# Altium schematic symbol library MERES.SchLib: 85 symbols
Pins are listed as number, name and electrical type; pins without a type are passive.

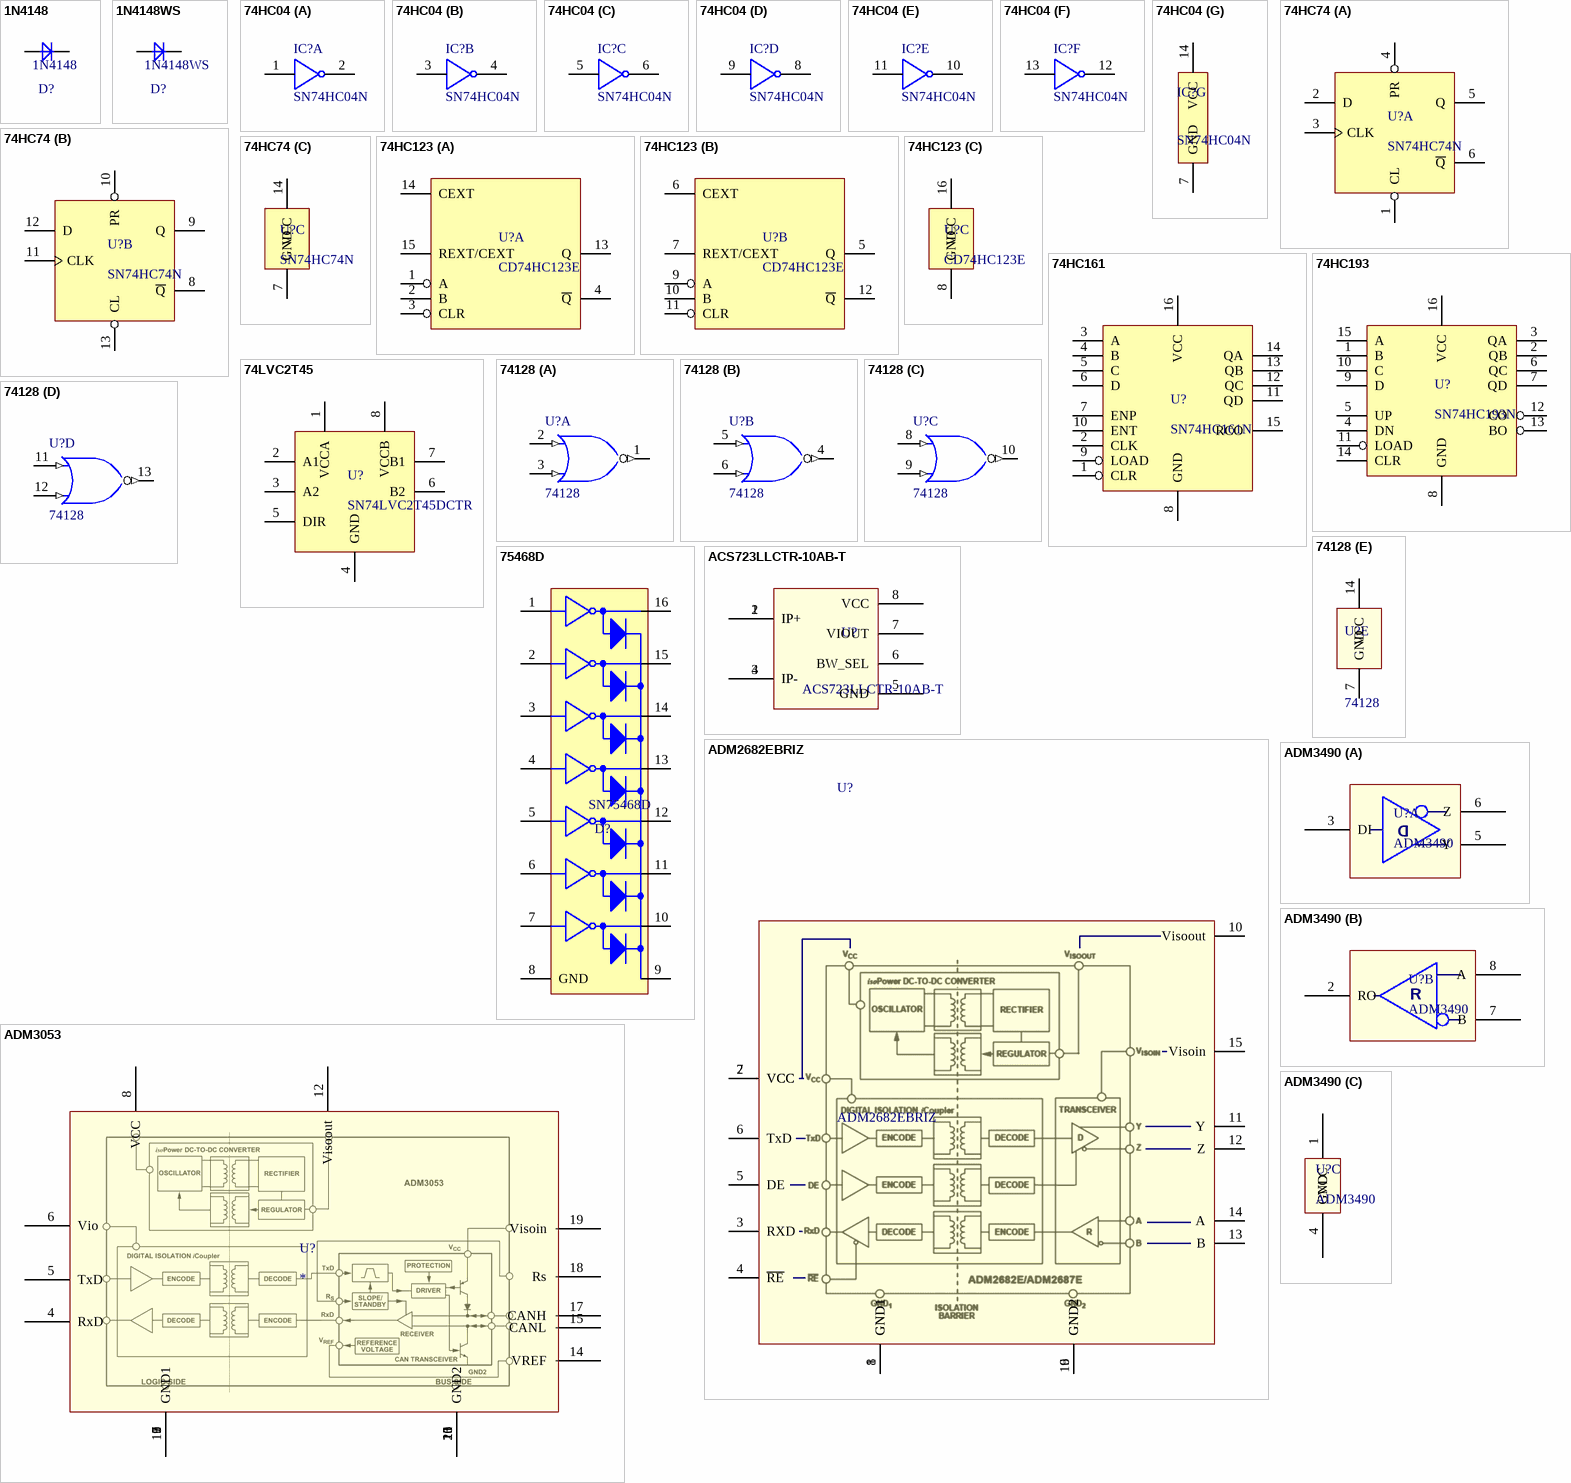
[diagram p0: symbols 1N4148 to ADM3490]

## 1N4148
designator D?
diode 100V 150mA; Part Class: Semiconductor; K_Manufacturer: (VIS); Distributor: Lomex; Order Code: 16-01-04; Package: DO-35; CompType: 1N4148
footprint DO-35-300
pins: 1 A, 2 K

## 1N4148WS
designator D?
Default Diode; Part Class: Semiconductor; CompType: 1N4148WS
footprint SOD-323
pins: 1 K, 2 A

## 74HC04
designator IC?, comment SN74HC04N
6xINVERTER GATE; Part Class: IC; K_Manufacturer: (TI); Distributor: Lomex; Order Code: 30-02-40; Package: DIP-14; CompType: SN74HC04N
footprint DIP-14
part A pins: 1 IN1, 2 OUT1
part B pins: 3 IN2, 4 OUT2
part C pins: 5 IN3, 6 OUT3
part D pins: 8 OUT4, 9 IN4
part E pins: 10 OUT5, 11 IN5
part F pins: 12 OUT6, 13 IN6
part G pins: 7 GND, 14 VCC

## 74HC74
designator U?, comment SN74HC74N
2xD-TYPE FLIP-FLOP WITH PRESET; Part Class: IC; K_Manufacturer: (TI); CompType: SN74HC74N; Distributor: Lomex; Order Code: 30-09-25; Package: DIP-14
footprint DIP-14
part A pins: 1 CL, 2 D, 3 CLK, 4 PR, 5 Q, 6 ~{Q}
part B pins: 8 ~{Q}, 9 Q, 10 PR, 11 CLK, 12 D, 13 CL
part C pins: 7 GND, 14 VCC

## 74HC123
designator U?, comment CD74HC123E
2xRETRIGGERABLE MONOSTAB. MULTIVIBRATOR; Part Class: IC; K_Manufacturer: (TI); CompType: CD74HC123E; Distributor: Lomex; Order Code: 30-04-07; Package: DIP-16
footprint DIP-16
part A pins: 1 A, 2 B, 3 CLR, 4 ~{Q}, 13 Q, 14 CEXT, 15 REXT/CEXT
part B pins: 5 Q, 6 CEXT, 7 REXT/CEXT, 9 A, 10 B, 11 CLR, 12 ~{Q}
part C pins: 8 GND, 16 VCC

## 74HC161
designator U?, comment SN74HC161N
SYNCHRONUS PRESETTAB 4-BIT BIN. COUNTER; Part Class: IC; K_Manufacturer: (TI); CompType: SN74HC161N; Distributor: Lomex; Order Code: 30-03-78; Package: DIP-16
footprint DIP-16
pins: 1 CLR, 2 CLK, 3 A, 4 B, 5 C, 6 D, 7 ENP, 8 GND, 9 LOAD, 10 ENT, 11 QD, 12 QC, 13 QB, 14 QA, 15 RCO, 16 VCC

## 74HC193
designator U?, comment SN74HC193N
SYNCHRONUS UP/DOWN BIN.COUNTER; Part Class: IC; K_Manufacturer: (TI); CompType: SN74HC193N; Distributor: Lomex; Order Code: 30-04-48; Package: DIP-16
footprint DIP-16
pins: 1 B, 2 QB, 3 QA, 4 DN, 5 UP, 6 QC, 7 QD, 8 GND, 9 D, 10 C, 11 LOAD, 12 CO, 13 BO, 14 CLR, 15 A, 16 VCC

## 74LVC2T45
designator U?, comment SN74LVC2T45DCTR
Dual-Bit Dual-Supply Level Translation With 3-State Outputs; Part Class: IC; CompType: SN74LVC2T45DCTR; Package: SSOP-8
footprint SSOP-8 (SSOP, 8-Leads, Pitch 0,65mm, Body 3,1x3,1mm)
pins: 1 VCCA, 2 A1, 3 A2, 4 GND, 5 DIR, 6 B2, 7 B1, 8 VCCB

## 74128
designator U?
NOR Line Driver; Order Code: 1105944; CompType: SN74128N; Published: 8-Jun-2000; LatestRevisionDate: 04-Mar-2005; LatestRevisionNote: Stylized 3D Model Added.; DatasheetVersion: Mar-1988; PackageVersion: Oct-1995; PackageReference: N014; Publisher: Altium Limited; PackageDescription: DIP; 14 Leads; Row Spacing 7.62 mm; Pitch 2.54 mm; ComponentLink1Description: Manufacturer Link; ComponentLink1URL: http://www.ti.com/; ComponentLink2Description: Packaging Specification; ComponentLink2URL: http://focus.ti.com/lit/ml/mpdi002c/mpdi002c.pdf; Distributor: Farnell; Package: DIP14
footprint DIP-14
part A pins: 1 Y (out), 2 A (in), 3 B (in)
part B pins: 4 Y (out), 5 A (in), 6 B (in)
part C pins: 8 A (in), 9 B (in), 10 Y (out)
part D pins: 11 A (in), 12 B (in), 13 Y (out)
part E pins: 7 GND, 14 VCC

## 75468D
designator D?, comment SN75468D
Darlington array; Part Class: Semiconductor; Order Code: 517-0766; Distributor: RS components; Package: SOIC-16; CompType: SN75468D
footprint SO-16
pins: 1 IN1, 2 IN2, 3 IN3, 4 IN4, 5 IN5, 6 IN6, 7 IN7, 8 GND, 9 COM, 10 OUT7, 11 OUT6, 12 OUT5, 13 OUT4, 14 OUT3, 15 OUT2, 16 OUT1

## ACS723LLCTR-10AB-T
designator U?
Galvanically Isolated Current Sensor; K_Manufacturer: Allegro Microsystems; Order Code: 866-0760; Distributor: RS components; Package: SOIC-8; CompType: ACS723LLCTR-10AB-T
footprint SO-8
pins: 1 IP+, 2 IP+, 3 IP-, 4 IP-, 5 GND, 6 BW_SEL, 7 VIOUT, 8 VCC

## ADM2682EBRIZ
designator U?
Note: 16Mbit/s; Order Code: 796-8978; CompType: ADM2682EBRIZ; Distributor: RS components; Package: SOIC-16
footprint SO-16W
pins: 1 GND1, 2 VCC, 3 RXD, 4 ~{RE}, 5 DE, 6 TxD, 7 VCC, 8 GND1, 9 GND2, 10 Visoout, 11 Y, 12 Z, 13 B, 14 A, 15 Visoin, 16 GND2

## ADM3053
designator U?
Order Code: 742-7809; CompType: ADM3053BRWZ; Distributor: RS components; Package: SOIC-20
footprint RW-20 (SOIC, 16-Leads, Body 10.3x7.5mm, Pitch 1.27mm, IPC High Density)
pins: 1 GND1, 3 GND1, 4 RxD, 5 TxD, 6 Vio, 7 GND1, 8 VCC, 9 GND1, 10 GND1, 11 GND2, 12 Visoout, 13 GND2, 14 VREF, 15 CANL, 16 GND2, 17 CANH, 18 Rs, 19 Visoin, 20 GND2

## ADM3490
designator U?
Order Code: 709-7997; CompType: ADM3490EARZ; Distributor: RS components; Package: SO-8
footprint SO-8
part A pins: 3 DI, 5 Y, 6 Z
part B pins: 2 RO, 7 B, 8 A
part C pins: 1 VCC, 4 GND
part A text: D
part B text: R

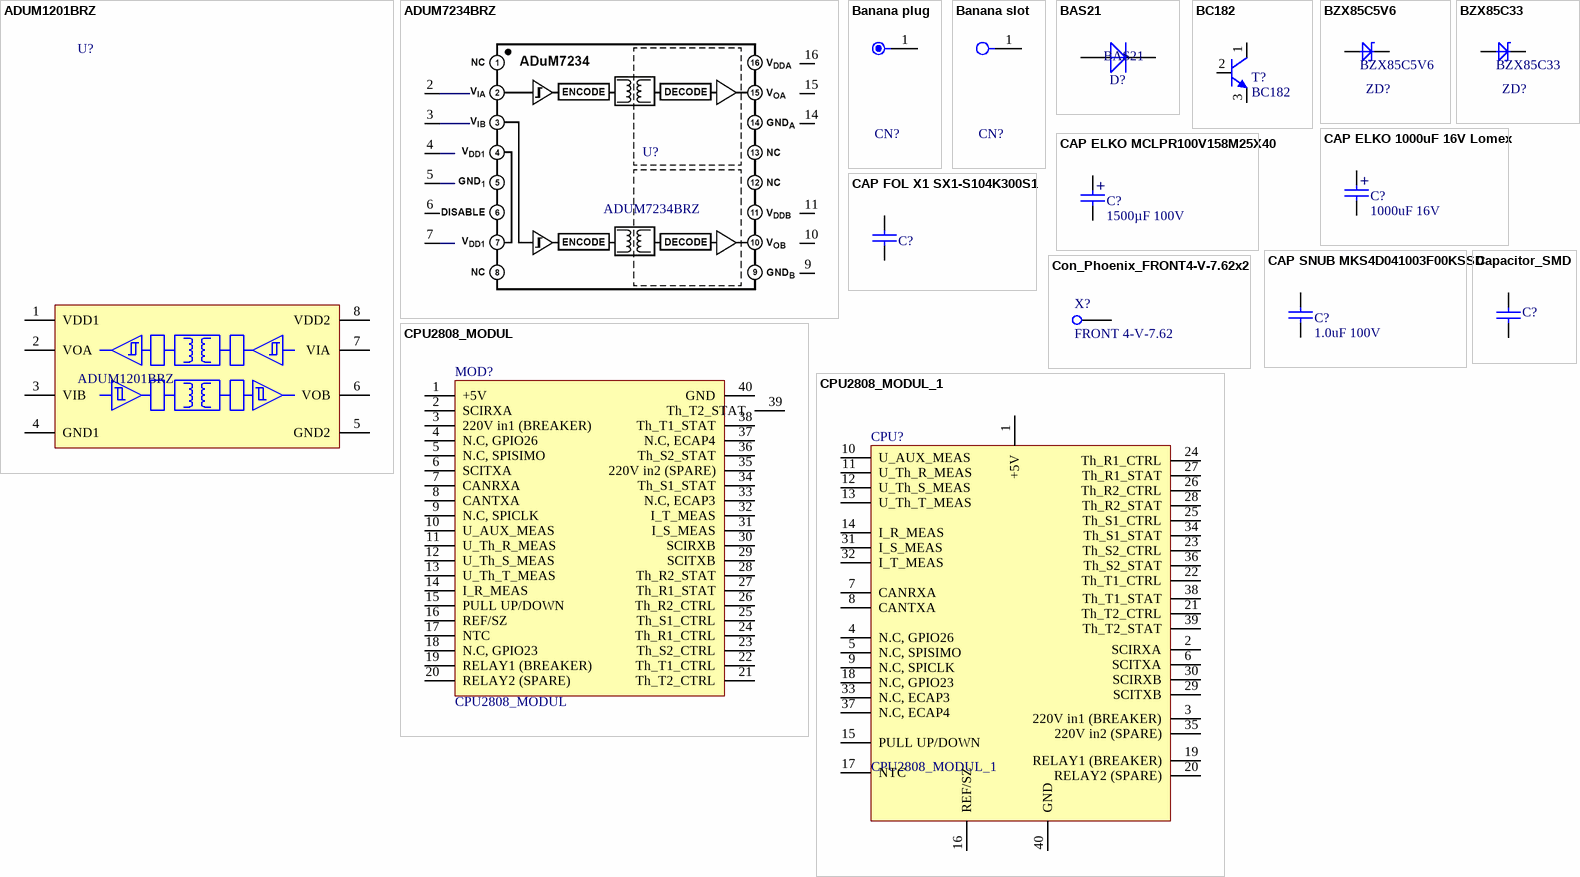
[diagram p1: symbols ADUM1201BRZ to CPU2808_MODUL_1]

## ADUM1201BRZ
designator U?
Note: 10 Mbit max. for BRZ; Order Code: 496-7525; CompType: ADUM1201BRZ; Distributor: RS components; Package: SOIC-8
footprint SO-8
pins: 1 VDD1, 2 VOA, 3 VIB, 4 GND1, 5 GND2, 6 VOB, 7 VIA, 8 VDD2

## ADUM7234BRZ
designator U?
isolated gate driver; Order Code: 802-3559; Distributor: RS components; Package: SOIC_N-16; CompType: ADUM7234BRZ
footprint SO-16
pins: 2, 3, 4, 5, 6, 7, 9, 10, 11, 14, 15, 16

## Banana plug
designator CN?  (value not drawn)
Part Class: Connector; Order Code: 930 726-100; CompType: BUELA 20K FEKETE; Distributor: RET; Package: banán
footprint banan_dugo
pins: 1

## Banana slot
designator CN?  (value not drawn)
Part Class: Connector; Order Code: Feri megveszi.; CompType: banán hüvely.; Value: RED; Distributor: Bunkoek; Package: banán
footprint banan_huvely_FEKETE
footprint banan_huvely_KEK
footprint banan_huvely_piros
pins: 1

## BAS21
designator D?
250V 200mA diode; Part Class: Semiconductor; CompType: BAS21
footprint SOT-23; pin to pad 2>3
pins: 1 A, 2 K

## BC182
designator T?
NPN-UNI 50V 0.1A 1W 100MHz; Part Class: Semiconductor; K_Manufacturer: (CDI); Distributor: Lomex; Order Code: 21-11-19; CompType: BC182
footprint TO-92 (TO, Flat Index; 3 In-Line, Axial Leads; Body Dia. 4.5mm; Leads 0.51 x 0.48 mm (max))
pins: 1 C, 2 B, 3 E

## BZX85C5V6
designator ZD?
Zener Diode 5V6 1.3W DO-41; Part Class: Semiconductor; K_Manufacturer: (VIS); Note: 5.6 V 1.3 W; Distributor: Lomex; Order Code: 18-01-92; Package: DO-41; CompType: BZX85C5V6
footprint DO-41-400
pins: 1 A, 2 K

## BZX85C33
designator ZD?
Zener Diode 33V 1.3W DO-41; Part Class: Semiconductor; K_Manufacturer: (VIS); Distributor: Lomex; Order Code: 18-00-78; Package: DO-41; CompType: BZX85C33; Note: 33 V 1.3 W
footprint DO-41-400
pins: 1 A, 2 K

## CAP ELKO 1000uF 16V Lomex
designator C?, comment 1000uF 16V
Electrolytic Capacitor, Snap-in, 1500 µF ± 20%, 100 V; K_Manufacturer: Teapo Electronic Corp.; CompType: DSY108M016S1A5G20K; Note: 20% 105° 4000h; Distributor: Lomex; Order Code: 12-18-96; Package: 8x20 RM 3.5; Part Class: Capacitor; Value: 1000uF 16V
footprint ELKO RM=3.5; D=8; L=15; (RM=3.5; D=8; L=15;)
pins: 1, 2
text: +

## CAP ELKO MCLPR100V158M25X40
designator C?, comment 1500µF 100V
Electrolytic Capacitor, Snap-in, 1500 µF ± 20%, 100 V; K_Manufacturer: Multicomp; Order Code: 1903128; CompType: MCLPR100V158M25X40; Distributor: Farnell; Part Class: Capacitor; Value: 1500µF 100V
footprint ELKO RM10.16 d=2 (Multicomp PSMN)
pins: 1, 2
text: +

## CAP FOL X1 SX1-S104K300S1
designator C?
Part Class: Capacitor
footprint Cap RM15 (FOL X1 SX1-S104K300S1)
pins: 1, 2

## CAP SNUB MKS4D041003F00KSSD
designator C?, comment 1.0uF 100V
Polyesther cap. 1μF ±10% 100 VDC; Part Class: Capacitor; K_Manufacturer: WIMA; Order Code: 108-2980; CompType: MKS4D041003F00KSSD; Distributor: RS components; Value: 1.0uF 100V
footprint Cap RM10 (MKS4D041003F00KSSD)
pins: 1, 2

## Capacitor_SMD
designator C?
SMD kondenzátorok; Part Class: Capacitor
footprint 1210_C
footprint 0805_C
footprint 1206_C
footprint AXIAL-0.3 (Axial Device, Thru-Hole; 2 Leads; 0.3 in Pin Spacing)
pins: 1, 2

## Con_Phoenix_FRONT4-V-7.62x2
designator X?, comment FRONT 4-V-7.62
Part Class: Connector; K_Manufacturer: Phoenix Contact; Note: 2 x; Order Code: 1703021; CompType: FRONT 4-V-7.62; Distributor: Phoenix Contact; Mounted: Yes; SMD: No; K_Description: Connector; K_Type: FRONT 4-V-7.62; K_Value: 1703021
footprint Phoenix_FRONT4-V-7.62x2
pins: 1

## CPU2808_MODUL
designator MOD?
Part Class: Other
footprint CPU2808_MODUL
pins: 1 +5V, 2 SCIRXA, 3 220V in1 (BREAKER), 4 N.C, GPIO26, 5 N.C, SPISIMO, 6 SCITXA, 7 CANRXA, 8 CANTXA, 9 N.C, SPICLK, 10 U_AUX_MEAS, 11 U_Th_R_MEAS, 12 U_Th_S_MEAS, 13 U_Th_T_MEAS, 14 I_R_MEAS, 15 PULL UP/DOWN, 16 REF/SZ, 17 NTC, 18 N.C, GPIO23, 19 RELAY1 (BREAKER), 20 RELAY2 (SPARE), 21 Th_T2_CTRL, 22 Th_T1_CTRL, 23 Th_S2_CTRL, 24 Th_R1_CTRL, 25 Th_S1_CTRL, 26 Th_R2_CTRL, 27 Th_R1_STAT, 28 Th_R2_STAT, 29 SCITXB, 30 SCIRXB, 31 I_S_MEAS, 32 I_T_MEAS, 33 N.C, ECAP3, 34 Th_S1_STAT, 35 220V in2 (SPARE), 36 Th_S2_STAT, 37 N.C, ECAP4, 38 Th_T1_STAT, 39 Th_T2_STAT, 40 GND

## CPU2808_MODUL_1
designator CPU?
Part Class: Other
footprint CPU2808_MODUL
pins: 1 +5V, 2 SCIRXA, 3 220V in1 (BREAKER), 4 N.C, GPIO26, 5 N.C, SPISIMO, 6 SCITXA, 7 CANRXA, 8 CANTXA, 9 N.C, SPICLK, 10 U_AUX_MEAS, 11 U_Th_R_MEAS, 12 U_Th_S_MEAS, 13 U_Th_T_MEAS, 14 I_R_MEAS, 15 PULL UP/DOWN, 16 REF/SZ, 17 NTC, 18 N.C, GPIO23, 19 RELAY1 (BREAKER), 20 RELAY2 (SPARE), 21 Th_T2_CTRL, 22 Th_T1_CTRL, 23 Th_S2_CTRL, 24 Th_R1_CTRL, 25 Th_S1_CTRL, 26 Th_R2_CTRL, 27 Th_R1_STAT, 28 Th_R2_STAT, 29 SCITXB, 30 SCIRXB, 31 I_S_MEAS, 32 I_T_MEAS, 33 N.C, ECAP3, 34 Th_S1_STAT, 35 220V in2 (SPARE), 36 Th_S2_STAT, 37 N.C, ECAP4, 38 Th_T1_STAT, 39 Th_T2_STAT, 40 GND

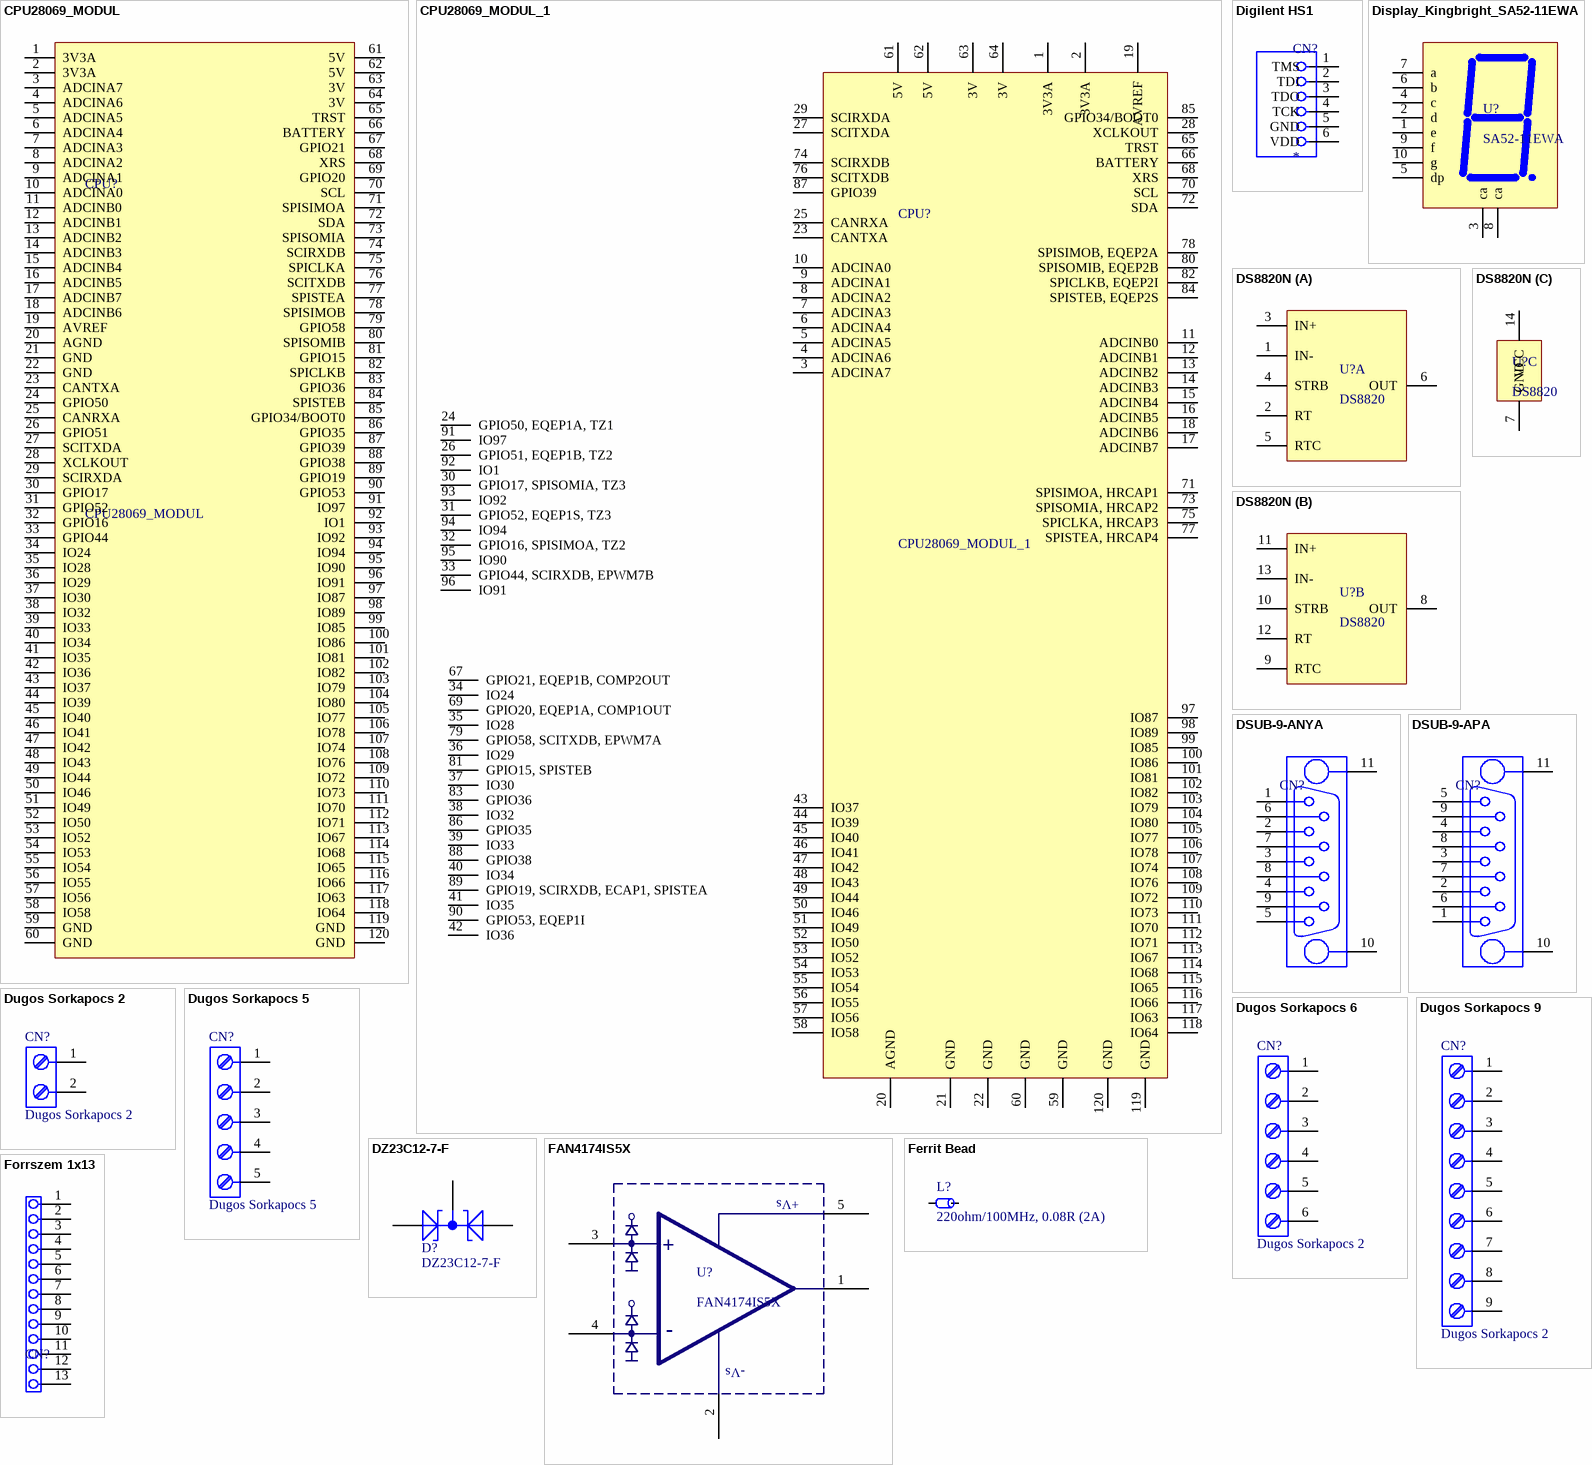
[diagram p2: symbols CPU28069_MODUL to Forrszem 1x13]

## CPU28069_MODUL
designator CPU?
Part Class: Other; CompType: Texas proc. card; Order Code: Szákó procikártya; Distributor: Feri; Package: 2.0 in
footprint CPU28069_szako
pins: 1 3V3A, 2 3V3A, 3 ADCINA7, 4 ADCINA6, 5 ADCINA5, 6 ADCINA4, 7 ADCINA3, 8 ADCINA2, 9 ADCINA1, 10 ADCINA0, 11 ADCINB0, 12 ADCINB1, 13 ADCINB2, 14 ADCINB3, 15 ADCINB4, 16 ADCINB5, 17 ADCINB7, 18 ADCINB6, 19 AVREF, 20 AGND, 21 GND, 22 GND, 23 CANTXA, 24 GPIO50, 25 CANRXA, 26 GPIO51, 27 SCITXDA, 28 XCLKOUT, 29 SCIRXDA, 30 GPIO17, 31 GPIO52, 32 GPIO16, 33 GPIO44, 34 IO24, 35 IO28, 36 IO29, 37 IO30, 38 IO32, 39 IO33, 40 IO34, 41 IO35, 42 IO36, 43 IO37, 44 IO39, 45 IO40, 46 IO41, 47 IO42, 48 IO43, 49 IO44, 50 IO46, 51 IO49, 52 IO50, 53 IO52, 54 IO53, 55 IO54, 56 IO55, 57 IO56, 58 IO58, 59 GND, 60 GND, 61 5V, 62 5V, 63 3V, 64 3V, 65 TRST, 66 BATTERY, 67 GPIO21, 68 XRS, 69 GPIO20, 70 SCL, 71 SPISIMOA, 72 SDA, 73 SPISOMIA, 74 SCIRXDB, 75 SPICLKA, 76 SCITXDB, 77 SPISTEA, 78 SPISIMOB, 79 GPIO58, 80 SPISOMIB, 81 GPIO15, 82 SPICLKB, 83 GPIO36, 84 SPISTEB, 85 GPIO34/BOOT0, 86 GPIO35, 87 GPIO39, 88 GPIO38, 89 GPIO19, 90 GPIO53, 91 IO97, 92 IO1, 93 IO92, 94 IO94, 95 IO90, 96 IO91, 97 IO87, 98 IO89, 99 IO85, 100 IO86, 101 IO81, 102 IO82, 103 IO79, 104 IO80, 105 IO77, 106 IO78, 107 IO74, 108 IO76, 109 IO72, 110 IO73, 111 IO70, 112 IO71, 113 IO67, 114 IO68, 115 IO65, 116 IO66, 117 IO63, 118 IO64, 119 GND, 120 GND

## CPU28069_MODUL_1
designator CPU?
HÜVELY 36x2 P PRECI 803-87-072-10-001101 (PRE) 2.54x2.54 FLASH Au 0.64x0.64mm 0.7-0.9mm; Part Class: Other; Note: CPU kártyánként kettő kell! FLASH Au 0.64x0.64mm 0.7-0.9mm; Order Code: 2x  43-07-14; CompType: 803-87-072-10-001101; Distributor: Lomex; Package: 36x2P 2.54x2.54
footprint CPU28069_szako
pins: 1 3V3A, 2 3V3A, 3 ADCINA7, 4 ADCINA6, 5 ADCINA5, 6 ADCINA4, 7 ADCINA3, 8 ADCINA2, 9 ADCINA1, 10 ADCINA0, 11 ADCINB0, 12 ADCINB1, 13 ADCINB2, 14 ADCINB3, 15 ADCINB4, 16 ADCINB5, 17 ADCINB7, 18 ADCINB6, 19 AVREF, 20 AGND, 21 GND, 22 GND, 23 CANTXA, 24 GPIO50, EQEP1A, TZ1, 25 CANRXA, 26 GPIO51, EQEP1B, TZ2, 27 SCITXDA, 28 XCLKOUT, 29 SCIRXDA, 30 GPIO17, SPISOMIA, TZ3, 31 GPIO52, EQEP1S, TZ3, 32 GPIO16, SPISIMOA, TZ2, 33 GPIO44, SCIRXDB, EPWM7B, 34 IO24, 35 IO28, 36 IO29, 37 IO30, 38 IO32, 39 IO33, 40 IO34, 41 IO35, 42 IO36, 43 IO37, 44 IO39, 45 IO40, 46 IO41, 47 IO42, 48 IO43, 49 IO44, 50 IO46, 51 IO49, 52 IO50, 53 IO52, 54 IO53, 55 IO54, 56 IO55, 57 IO56, 58 IO58, 59 GND, 60 GND, 61 5V, 62 5V, 63 3V, 64 3V, 65 TRST, 66 BATTERY, 67 GPIO21, EQEP1B, COMP2OUT, 68 XRS, 69 GPIO20, EQEP1A, COMP1OUT, 70 SCL, 71 SPISIMOA, HRCAP1, 72 SDA, 73 SPISOMIA, HRCAP2, 74 SCIRXDB, 75 SPICLKA, HRCAP3, 76 SCITXDB, 77 SPISTEA, HRCAP4, 78 SPISIMOB, EQEP2A, 79 GPIO58, SCITXDB, EPWM7A, 80 SPISOMIB, EQEP2B, 81 GPIO15, SPISTEB, 82 SPICLKB, EQEP2I, 83 GPIO36, 84 SPISTEB, EQEP2S, 85 GPIO34/BOOT0, 86 GPIO35, 87 GPIO39, 88 GPIO38, 89 GPIO19, SCIRXDB, ECAP1, SPISTEA, 90 GPIO53, EQEP1I, 91 IO97, 92 IO1, 93 IO92, 94 IO94, 95 IO90, 96 IO91, 97 IO87, 98 IO89, 99 IO85, 100 IO86, 101 IO81, 102 IO82, 103 IO79, 104 IO80, 105 IO77, 106 IO78, 107 IO74, 108 IO76, 109 IO72, 110 IO73, 111 IO70, 112 IO71, 113 IO67, 114 IO68, 115 IO65, 116 IO66, 117 IO63, 118 IO64, 119 GND, 120 GND

## Digilent HS1
designator CN?
CompType: Pin header 40 P; Distributor: Lomex; Order Code: 43-00-73; Package: PHSS-40- 6/3 (T-T) 2.54mm
footprint DIGILENT HS1 TUSKESOR1x6
pins: 1 TMS, 2 TDI, 3 TDO, 4 TCK, 5 GND, 6 VDD

## Display_Kingbright_SA52-11EWA
designator U?, comment SA52-11EWA
CompType: SA52-11EWA
pins: 1 e, 2 d, 3 ca, 4 c, 5 dp, 6 b, 7 a, 8 ca, 9 f, 10 g

## DS8820N
designator U?, comment DS8820
Dual Line Receiver; Part Class: IC; Note: Farnell: interchangeable with SN75182N; CompType: DS8820; Distributor: ?; Order Code: ?; Package: DIP-14
footprint DIP-14
part A pins: 1 IN-, 2 RT, 3 IN+, 4 STRB, 5 RTC, 6 OUT
part B pins: 8 OUT, 9 RTC, 10 STRB, 11 IN+, 12 RT, 13 IN-
part C pins: 7 GND, 14 VCC

## DSUB-9-ANYA
designator CN?  (value not drawn)
Part Class: Connector
footprint DSUB-9-US-ANYA
pins: 1, 2, 3, 4, 5, 6, 7, 8, 9, 10 MH1, 11 MH2

## DSUB-9-APA
designator CN?  (value not drawn)
Part Class: Connector
footprint DSUB-9-US-APA
pins: 1, 2, 3, 4, 5, 6, 7, 8, 9, 10 MH1, 11 MH2

## Dugos Sorkapocs 2
designator CN?
2 P RM5.08 90° ZÁRT 12A; Part Class: Connector; Order Code: 43-06-99, 43-06-88; CompType: CPM5.08/2SQ, CPF5.08/2; Distributor: Lomex; Package: 5.08mm; Note: 2 P RM5.08 90° ZÁRT 12A
footprint Dugos_sorkapocs 2
pins: 1, 2

## Dugos Sorkapocs 5
designator CN?
SORKAPOCS 5 P RM5.08 CSAPSORLÉC 90° ZÁRT 12A; Part Class: Connector; K_manufacturer: (STE); Order Code: 43-07-79, 43-07-78; CompType: CPM5.08/5SQ, CPF5.08/5; Value: 5P; Distributor: Lomex; Package: RM5.08
footprint Dugos_sorkapocs 5
pins: 1, 2, 3, 4, 5

## Dugos Sorkapocs 6
designator CN?, comment Dugos Sorkapocs 2
SORKAPOCS 6 P RM5.08 CSAPSORLÉC 90°; Part Class: Connector; Order Code: 43-07-95, 43-07-94; CompType: CPM5.08/6SQ, CPF5.08/6; Note: 6 P RM5.08  90° ZÁRT 12A; Distributor: Lomex; Package: 5.08mm
footprint Dugos_sorkapocs 6
pins: 1, 2, 3, 4, 5, 6

## Dugos Sorkapocs 9
designator CN?, comment Dugos Sorkapocs 2
SORKAPOCS 9 P RM5.08 CSAPSORLÉC 90° ZÁRT; Part Class: Connector; Order Code: 43-07-83, 43-07-82; CompType: CPM5.08/9SQ; Value: 9P; Note: SORKAPOCS CSAPSORLÉC 90° ZÁRT. Dugó is az OrderCode-ban!; Distributor: Lomex; Package: RM5.08
footprint Dugos_sorkapocs 9
pins: 1, 2, 3, 4, 5, 6, 7, 8, 9

## DZ23C12-7-F
designator D?
Dual Zener 2x12V 300mW SOT-23; Part Class: Semiconductor; Order Code: 1773571; Note: Dual zener 12V; Distributor: Farnell; Package: SOT-23; CompType: DZ23C12-7-F
footprint SOT-23
pins: 1 A1, 2 A2, 3 K

## FAN4174IS5X
designator U?
OrderCode: 671-1166; CompType: FAN4174IS5X; Distributor: RS components; Package: SOT-23-5
footprint SOT-23-5 (SOT23, 5-Leads, Texas Instruments)
pins: 1 OUT, 2 -Vs, 3 +IN, 4 -IN, 5 +Vs
text: +; -

## Ferrit Bead
designator L?, comment 220ohm/100MHz, 0.08R (2A)
SMD Ferrit Bead 220ohm/100MHz; Part Class: Inductivity; CompType: CB05YTYH221; Distributor: Lomex; Order Code: 93-03-48; Package: 0805; Value: 220ohm/100MHz, 0.08R (2A)
footprint 0805_R
footprint 1206_R
pins: 1, 2

## Forrszem 1x13
designator CN?  (value not drawn)
Part Class: Connector; Note: Do not place! For wires only.
footprint FORRSZEM_1x13
pins: 1, 2, 3, 4, 5, 6, 7, 8, 9, 10, 11, 12, 13

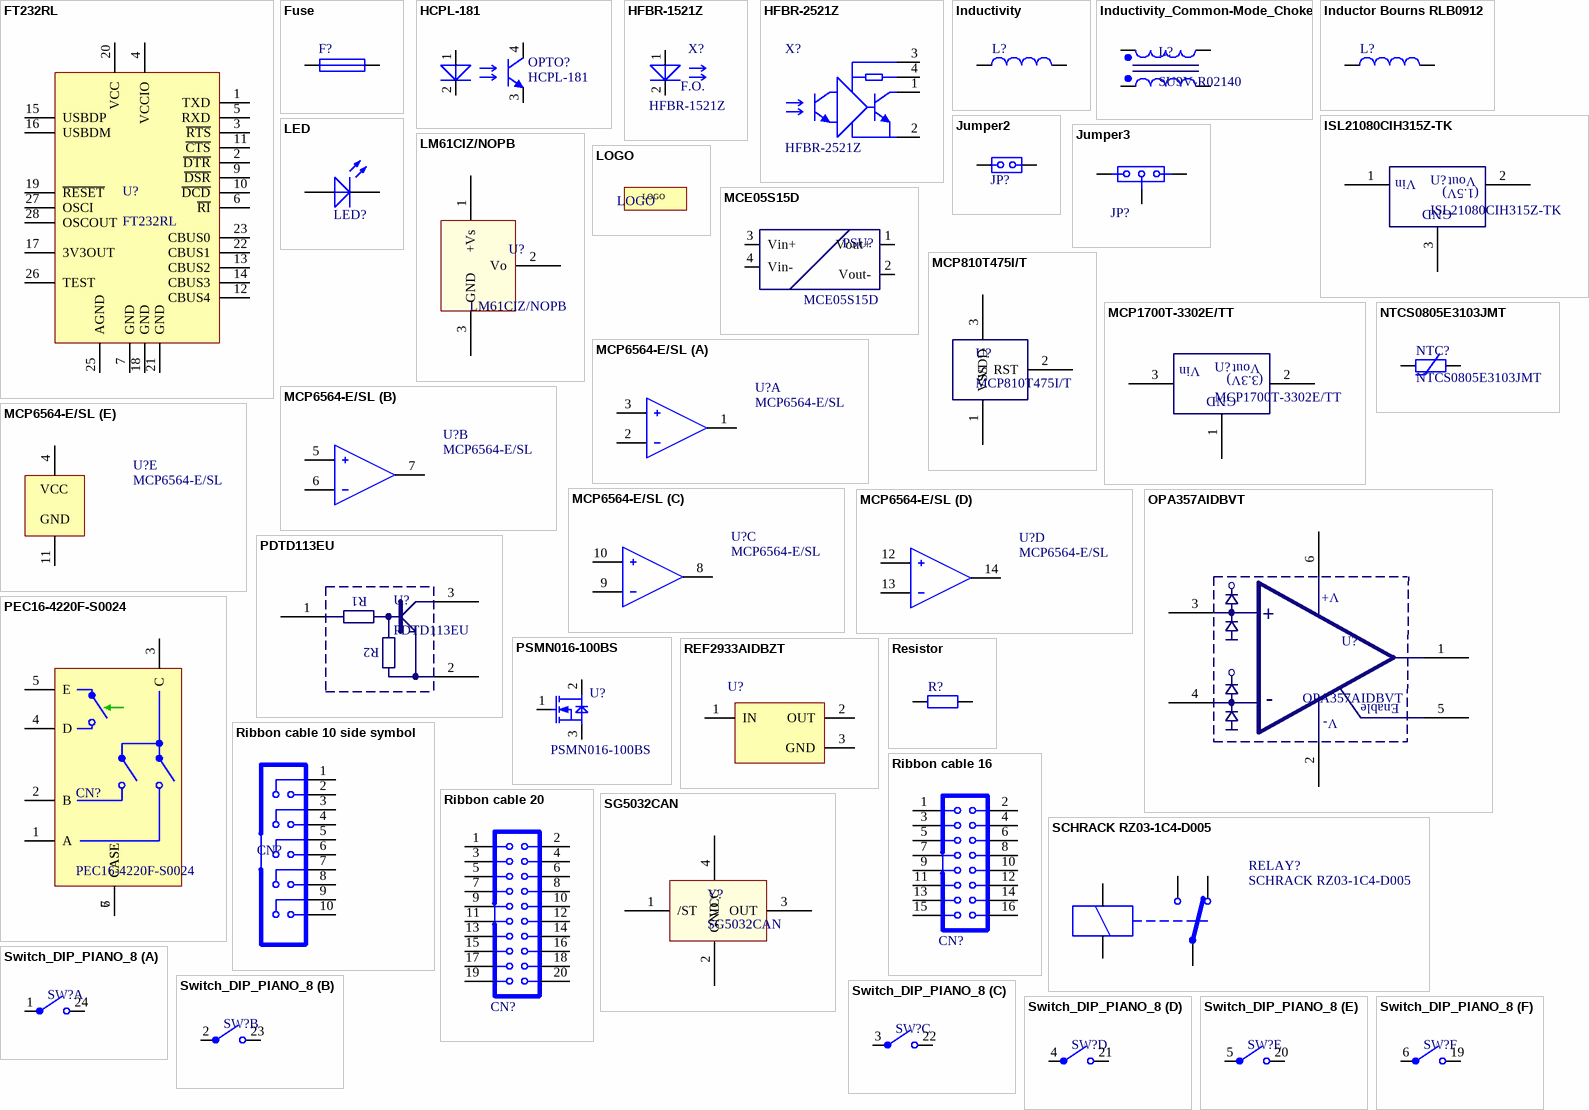
[diagram p3: symbols FT232RL to Switch_DIP_PIANO_8]

## FT232RL
designator U?
USB - UART IC; K_Manufacturer: (FTD); Note: USB UART IC; CompType: FT232RL; Distributor: Lomex; Order Code: 89-21-46; Package: SSOP-28; Part Class: IC
footprint SSOP-28 (FTDI Chip)
pins: 1 TXD, 2 ~{DTR}, 3 ~{RTS}, 4 VCCIO, 5 RXD, 6 ~{RI}, 7 GND, 9 ~{DSR}, 10 ~{DCD}, 11 ~{CTS}, 12 CBUS4, 13 CBUS2, 14 CBUS3, 15 USBDP, 16 USBDM, 17 3V3OUT, 18 GND, 19 ~{RESET}, 20 VCC, 21 GND, 22 CBUS1, 23 CBUS0, 25 AGND, 26 TEST, 27 OSCI, 28 OSCOUT

## Fuse
designator F?
Fuse; Part Class: Other
footprint BIZTOSITO_5X20
pins: 1, 2

## HCPL-181
designator OPTO?
Part Class: Opto; CompType: HCPL-181
footprint HCPL-181
pins: 1 A, 2 K, 3 E, 4 C

## HFBR-1521Z
designator X?
Part Class: Opto; K_Manufacturer: Avago; K_PartNum: 2010; CompType: HFBR-1522Z; K_Description: Fibre Optic Transmitter; K_Note: Horizontal; K_Type: HFBR-1522Z; Mounted: Yes; SMD: No
footprint HFBR-x52xZ
pins: 1 A, 2 K
text: F.O.

## HFBR-2521Z
designator X?
Part Class: Opto; K_Manufacturer: Avago; K_PartNum: 2010; CompType: HFBR-2522Z; K_Description: Fibre Optic Receiver; K_Note: Horizontal; K_Type: HFBR-2522Z; Mounted: Yes; SMD: No
footprint HFBR-x52xZ
pins: 1 Vo, 2 GND, 3 VCC, 4 RL

## Inductivity
designator L?
Part Class: Inductivity
footprint 0805_R
footprint 1206_R
footprint 1210
footprint PD1608
pins: 1, 2

## Inductivity_Common-Mode_Choke
designator L?, comment SU9V-R02140
Common-Mode Choke; Part Class: Inductivity; Value: SU9V-R02140
footprint SU9V-R02140
pins: 1, 2, 3, 4

## Inductor Bourns RLB0912
designator L?
Part Class: Inductivity
footprint IND_RAD_RM_5.0mm_9.5x12mm
pins: 1, 2

## ISL21080CIH315Z-TK
designator U?
footprint SOT-23
pins: 1 Vin, 2 Vout, 3 GND
text: (1.5V)

## Jumper2
designator JP?  (value not drawn)
Part Class: Connector
footprint JUMPER2
pins: 1, 2

## Jumper3
designator JP?  (value not drawn)
Part Class: Connector
footprint JUMPER3
pins: 1, 2, 3

## LED
designator LED?
LED; Part Class: Semiconductor
footprint 1206_LED_B
footprint 1206_LED_G
footprint 1206_LED_R
footprint 1206_LED_Y
footprint LED_5mm_hole
pins: 1 A, 2 K

## LM61CIZ/NOPB
designator U?
Temperature Sensor; K_Manufacturer: Texas Instruments; Order Code: 761-6034; Distributor: RS components; Package: TO-92; CompType: LM61CIZ/NOPB
footprint TO-92 (TO, Flat Index; 3 In-Line, Axial Leads; Body Dia. 4.5mm; Leads 0.51 x 0.48 mm (max))
pins: 1 +Vs, 2 Vo, 3 GND

## LOGO
designator G?  (no BOM)
footprint HIGH_VOLTAGE
footprint AUT logo

## MCE05S15D
designator PSU?
5V-in, 15V-out isolated DC/DC.; Order Code: 2079693; Distributor: Farnell; Package: DIP; CompType: MCE05S15D
footprint Multicomp MCE DIP
pins: 1 Vout+, 2 Vout-, 3 Vin+, 4 Vin-

## MCP810T475I/T
designator U?
footprint SOT-23
pins: 1 VSS, 2 RST, 3 VDD

## MCP1700T-3302E/TT
designator U?
footprint SOT-23
pins: 1 GND, 2 Vout, 3 Vin
text: (3.3V)

## MCP6564-E/SL
designator U?
Quad Push-Pull Output Compatator; Part Class: IC; Order Code: 669-6272; Distributor: RS components; Package: SO-14; CompType: MCP6564-E/SL
footprint SO-14
part A pins: 1 OUT1, 2 IN1-, 3 IN1+
part B pins: 5 IN2+, 6 IN2-, 7 OUT2
part C pins: 8 OUT3, 9 IN3-, 10 IN3+
part D pins: 12 IN4+, 13 IN4-, 14 OUT4
part E pins: 4 VCC, 11 GND

## NTCS0805E3103JMT
designator NTC?
10K NTC thermistor; Part Class: NTC; Value: NTCS0805E3103JMT
footprint 0805_R
pins: 1, 2

## OPA357AIDBVT
designator U?
OP-amp; K_Manufacturer: Texas Instruments; Order Code: 461-8841; Distributor: RS components; Package: SOT-23-6; CompType: OPA357AIDBVT
footprint SOT-23-6 (SOT23, 6-Leads, Texas Instruments)
pins: 1 OUT, 2 -Vs, 3 +IN, 4 -IN, 5 OUT, 6 V+
text: +; -; Enable; V-

## PDTD113EU
designator U?
footprint SC-70-3
pins: 1 B, 2 E, 3 C
text: R1; R2

## PEC16-4220F-S0024
designator CN?
ENCODER, ROTARY, INCREMENTAL, 100RPM; Part Class: Connector; Order Code: 2321814; Distributor: Farnell; CompType: PEC16-4220F-S0024; Note: ENCODER, ROTARY, INCREMENTAL, 100RPM
footprint PEC16-4xxxF-Sxxxx
pins: 1 A, 2 B, 3 C, 4 D, 5 E, 6 CASE, 7 CASE

## PSMN016-100BS
designator U?
MOSFET N Channel, 57 A, 100 V, 0.013 ohm; K_Manufacturer: NXP; Order Code: 2112537; Distributor: Farnell; Package: TO-263 (D^2 PAK); CompType: PSMN016-100BS
footprint D2PAK
pins: 1 G, 2 D, 3 S

## REF2933AIDBZT
designator U?
3.3 V, 100 ppm / degC, 50 uA in Series (Bandgap) Voltage Reference, -40 to 125 degC, 3-pin SOT-23 (DBZ), Green (RoHS & no Sb/Br); Manufacturer: Texas Instruments; PartNumber: REF2933AIDBZT; Initial Accuracy @ 25/deg C(%): 2; Iq(Max)(uA): 50; Rating: Catalog; SubFamily: Series Voltage Reference; Temp Coeff(Max)(ppm/ degree C): 100; Temp Coeff(Typ)(ppm/ degree C): 35; VI(Max)(V): 3.5; VO(V): 3.3; Order Code: 1459250; Note: 3.3V Voltage Reference, Precision, Low Power; DatasheetVersion: SBVS033B; PackageVersion: 4203227/B; PackageReference: DBZ3; PackageDescription: 3-Pin Plastic Small Outline, Body 2.92 x 1.3 mm, Pitch 0.95 mm; Supplier 1: Digi-Key; Supplier Part Number 1: 296-13484-2-ND; Supplier 2: Digi-Key; Supplier Part Number 2: 296-13484-1-ND; Supplier 3: Digi-Key; Supplier Part Number 3: 296-13484-6-ND; Supplier 4: Farnell; Supplier Part Number 4: 1459250RL; Supplier 5: Farnell; Supplier Part Number 5: 1459250; Supplier 6: Newark; Supplier Part Number 6: 83C7456; Supplier 7: Mouser; Supplier Part Number 7: 595-REF2933AIDBZT; Eco-Plan: Green (RoHS & no Sb/Br); Mounting Technology: Surface Mount; Code_JEDEC: TO-236; ComponentLink1Description: Manufacturer URL; ComponentLink1URL: http://www.ti.com/; ComponentLink2Description: Datasheet; ComponentLink2URL: http://www.ti.com/general/docs/lit/getliterature.tsp?genericPartNumber=REF2933&fileType=pdf; ComponentLink3Description: Package Specification; ComponentLink3URL: http://www.ti.com/litv/pdf/mpds108a; CompType: REF2933AIDBZT; Package: SOT-23; Distributor: Farnell
footprint TI-DBZ3_N (SOT23, 3-Leads, Body 2.92x1.3 mm, Pitch 0.95 mm, IPC Medium Density)
pins: 1 IN (power), 2 OUT (power), 3 GND (power)

## Resistor
designator R?
Part Class: Resistor
footprint MELF_RES_LARGE
footprint RES_AXIAL_D95_L250_RM500 (Ellenállás D = 2.4 mm  Testhossz = 6.3 mm  Raszter = 12.7 mm)
footprint 1210
footprint 0805_R
footprint 1206_R
footprint RES RM6 (2W-os ellenállás)
footprint AXIAL-0.3 (Axial Device, Thru-Hole; 2 Leads; 0.3 in Pin Spacing)
pins: 1, 2

## Ribbon cable 10 side symbol
designator CN?  (value not drawn)
Part Class: Connector; CompType: MLW10G; Note: Szalagkabelcsatlakozó: RET: PFL10: 53-00-69; Distributor: RET; Order Code: 53-02-70
footprint Szalagkabel 10
pins: 1, 2, 3, 4, 5, 6, 7, 8, 9, 10

## Ribbon cable 16
designator CN?, comment BH-16, FC-16  (value not drawn)
Ribbon cable 16; Part Class: Connector; Order Code: 43-01-70, 43-01-07; Distributor: Lomex; Package: 2.54mm; CompType: BH-16, FC-16
footprint Szalagkabel 16
pins: 1, 2, 3, 4, 5, 6, 7, 8, 9, 10, 11, 12, 13, 14, 15, 16

## Ribbon cable 20
designator CN?  (value not drawn)
Part Class: Connector; Order Code: 43-00-14, 43-01-10; CompType: DH-20, FC-20; Distributor: Lomex
footprint Szalagkabel 20
footprint Szalagkabel 20 - tuske
pins: 1, 2, 3, 4, 5, 6, 7, 8, 9, 10, 11, 12, 13, 14, 15, 16, 17, 18, 19, 20

## SCHRACK RZ03-1C4-D005
designator RELAY?
Part Class: Other; Distributor: RET; CompType: SCHRACK RZ03-1C4-D005
footprint RELAY_SCHRACK_5mm_C
pins: 1 A1, 2 A2, 3 11, 4 12, 5 14

## SG5032CAN
designator Y?
Order Code: 2442987; Distributor: Farnell; CompType: SG5032CAN; Package: TJGA
footprint SG5032
pins: 1 /ST, 2 GND, 3 OUT, 4 VCC

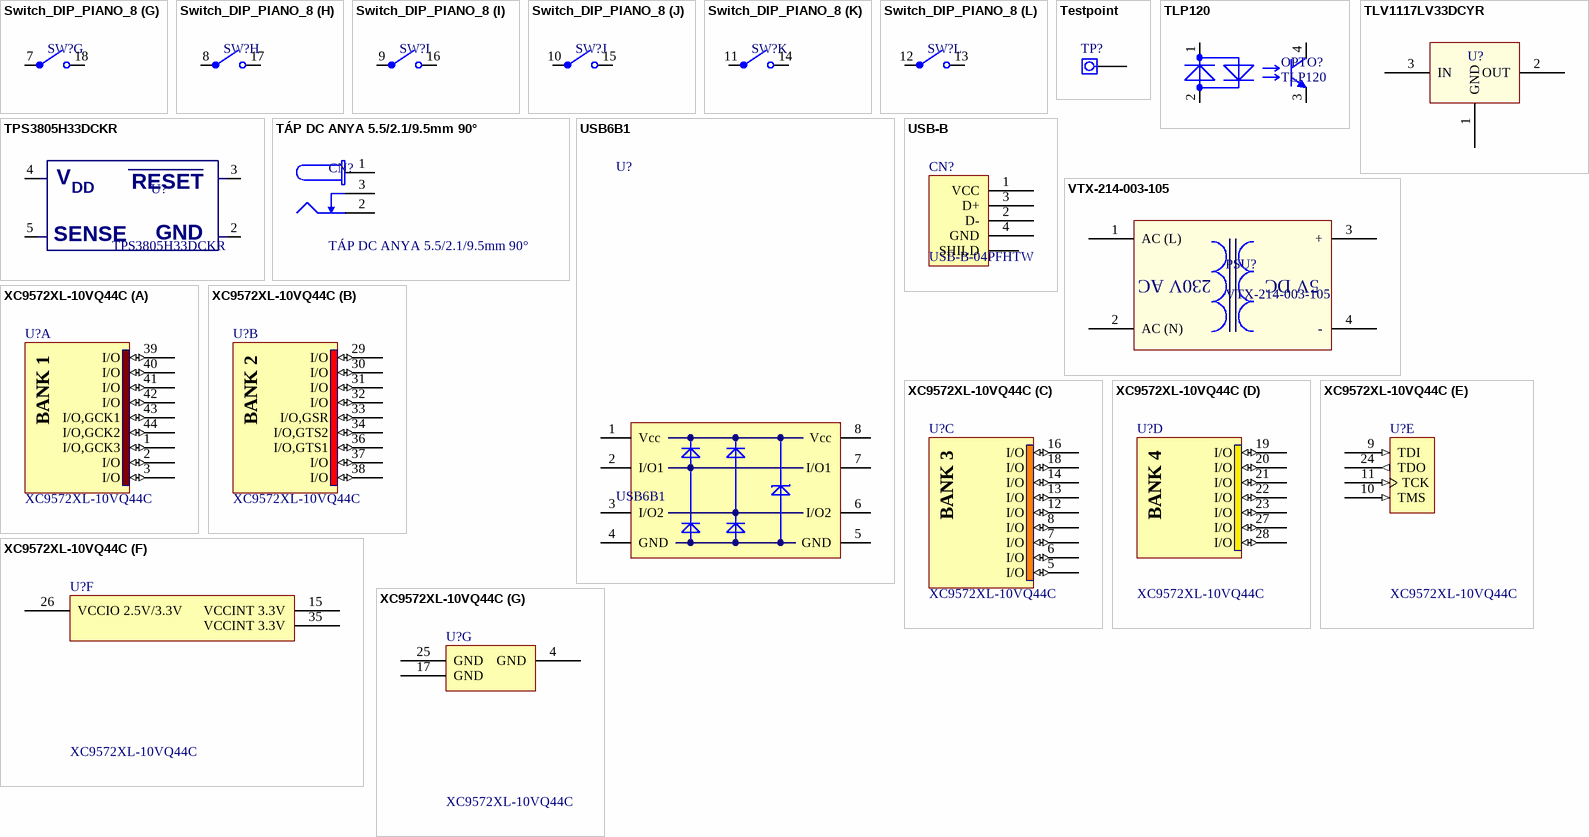
[diagram p4: symbols Switch_DIP_PIANO_8 to XC9572XL-10VQ44C]

## Switch_DIP_PIANO_8
designator SW?
footprint SWITCH-DIP-PIANO-12
part A pins: 1, 24
part B pins: 2, 23
part C pins: 3, 22
part D pins: 4, 21
part E pins: 5, 20
part F pins: 6, 19
part G pins: 7, 18
part H pins: 8, 17
part I pins: 9, 16
part J pins: 10, 15
part K pins: 11, 14
part L pins: 12, 13

## Testpoint
designator TP?  (value not drawn)  (no BOM)
Part Class: Connector
footprint TESTPOINT_1.5 (2mm-es tesztpont 1mm-es furattal)
pins: 1

## TLP120
designator OPTO?
MINIFLAT OPTOCOUPLER TRANS-OUT 50-600% 3.75kV AC-INPUT; Part Class: Opto; K_Manufacturer: (TOS); Distributor: Lomex; Order Code: 84-00-27; Package: MINIFLAT; CompType: TLP120
footprint HCPL-181
pins: 1 A, 2 K, 3 E, 4 C

## TLV1117LV33DCYR
designator U?  (value not drawn)
LDO; Order Code: 2323647; Distributor: Farnell; CompType: TLV1117LV33DCYR; Package: SOT-223
footprint SOT-223
pins: 1 GND, 2 OUT, 3 IN

## TPS3805H33DCKR
designator U?
supervisory; K_Manufacturer: Texas Instruments; Order Code: 662-4205; Distributor: RS components; Package: SC-70-5; CompType: TPS3805H33DCKR
footprint SC-70-5
pins: 2, 3, 4, 5
text: V; DD; RESET; GND; SENSE

## TÁP DC ANYA 5.5/2.1/9.5mm 90°
designator CN?
Part Class: Connector; CompType: DCS-5521-5; Note: TÁP DC ANYA NYÁK 90°; Distributor: Lomex; Order Code: 43-07-67; Package: 5.5/2.1/9.5mm
footprint TÁP DC ANYA 5.5/2.1/9.5mm NYÁK 90°
pins: 1, 2, 3

## USB6B1
designator U?
Note: TVS diode; Order Code: 687-1075; CompType: USB6B1; Distributor: RS components; Package: SOIC-8; Part Class: TVS diode
footprint SO-8
pins: 1 Vcc, 2 I/O1, 3 I/O2, 4 GND, 5 GND, 6 I/O2, 7 I/O1, 8 Vcc

## USB-B
designator CN?, comment USB-B-04PFHTW
Part Class: Connector; Note: HORIZONTAL PCB FEMALE NYÁK 90°; Distributor: Lomex; Order Code: 43-14-75; Package: USB-B 4P ANYA 90°; Price: 80; CompType: USB-B-04PFHTW
footprint USB-B
pins: 0 SHILD, 1 VCC, 2 D-, 3 D+, 4 GND

## VTX-214-003-105
designator PSU?
footprint VTX-214-003-105
pins: 1 AC (L), 2 AC (N), 3 +, 4 -
text: 230V AC; 5V DC

## XC9572XL-10VQ44C
designator U?
FastFLASH XC900XL, 3.3V High-Performance 72 Macrocell CPLD, 34 User I/Os, 44-Pin VQFP, Speed Grade 10, Commercial Grade; Published: 17-Jul-2002; LatestRevisionDate: 18-Nov-2009; LatestRevisionNote: Updated to datasheet version 2.5 May-2009.; DatasheetVersion: ver2.0 Apr-2007; PackageVersion: ver1.2, Jun-2004; PackageReference: VQ44; Publisher: Altium Limited; PackageDescription: 44-Pin Very Thin Quad Flat Pack (VQ44); Supplier 1: Digi-Key; Supplier Part Number 1: 122-1265-ND; Code_JEDEC: MS-026-ACB; ComponentLink1Description: XC9572XL Datasheet; ComponentLink1URL: http://www.xilinx.com/support/documentation/data_sheets/ds057.pdf; ComponentLink2Description: VQ44 Package Drawing; ComponentLink2URL: http://www.xilinx.com/support/documentation/package_specs/vq44.pdf; ComponentLink3Description: XC9500XL Documents; ComponentLink3URL: http://www.xilinx.com/support/documentation/xc9500xl.htm; ComponentLink4Description: Xilinx.com Home; ComponentLink4URL: http://www.xilinx.com
footprint VQG44_L (Thin QFP, 44-Leads, Body 10x10mm, Pitch 0.8mm, IPC High Density)
footprint VQG44_M (Thin QFP, 44-Leads, Body 10x10mm, Pitch 0.8mm, IPC Low Density)
footprint VQG44_N (Thin QFP, 44-Leads, Body 10x10mm, Pitch 0.8mm, IPC Medium Density)
part A pins: 1 I/O,GCK3 (io), 2 I/O (io), 3 I/O (io), 39 I/O (io), 40 I/O (io), 41 I/O (io), 42 I/O (io), 43 I/O,GCK1 (io), 44 I/O,GCK2 (io)
part B pins: 29 I/O (io), 30 I/O (io), 31 I/O (io), 32 I/O (io), 33 I/O,GSR (io), 34 I/O,GTS2 (io), 36 I/O,GTS1 (io), 37 I/O (io), 38 I/O (io)
part C pins: 5 I/O (io), 6 I/O (io), 7 I/O (io), 8 I/O (io), 12 I/O (io), 13 I/O (io), 14 I/O (io), 16 I/O (io), 18 I/O (io)
part D pins: 19 I/O (io), 20 I/O (io), 21 I/O (io), 22 I/O (io), 23 I/O (io), 27 I/O (io), 28 I/O (io)
part E pins: 9 TDI (in), 10 TMS (in), 11 TCK (in), 24 TDO (out)
part F pins: 15 VCCINT 3.3V (power), 26 VCCIO 2.5V/3.3V (power), 35 VCCINT 3.3V (power)
part G pins: 4 GND (power), 17 GND (power), 25 GND (power)
part A text: BANK 1
part B text: BANK 2
part C text: BANK 3
part D text: BANK 4